# Altium footprint library TRIM_3296X-1-203LF.PcbLib: 1 footprints
Each footprint in its own frame and in the unit in brackets; x right, y up, seen from the top. Pads: shape width x height; smd on the part's side, far side on the other; paste and mask are expansions set on the pad; w line width, h text height; cw(c..) or ccw(c..) is an arc to the next point about the centre after c.
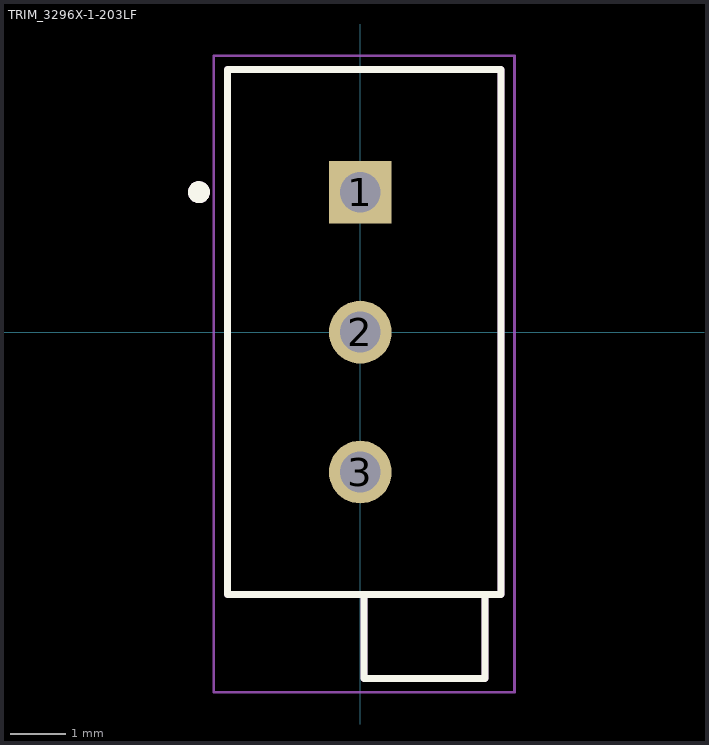
[diagram p0: the footprint, top view; thin cyan lines are the x and y axes]

## TRIM_3296X-1-203LF [mm]
pads (3):
  rect 1.14x1.14 hole 0.74: 1(0,2.54)
  round 1.14 hole 0.74: 2(0,0) 3(0,-2.54)
Top Overlay:
  circle w0.2: c-2.93,2.54 r0.1
  lines w0.127: 0.07,-4.765 0.07,-6.285 2.26,-6.285 2.26,-4.765 ; 0.07,-4.765 2.26,-4.765 ; 0.07,-4.765 -2.41,-4.765 -2.41,4.765 2.55,4.765 2.55,-4.765 2.26,-4.765
Mechanical 13:
  circle w0.2: c-2.93,2.54 r0.1
  lines w0.127: 0.07,-4.765 0.07,-6.285 2.26,-6.285 2.26,-4.765 ; 0.07,-4.765 2.26,-4.765 ; 0.07,-4.765 -2.41,-4.765 -2.41,4.765 2.55,4.765 2.55,-4.765 2.26,-4.765
Mechanical 15:
  lines w0.05: -2.66,-6.535 -2.66,5.015 2.8,5.015 2.8,-6.535 -2.66,-6.535